# Altium schematic symbol library ind.Schlib: 1 symbol
Pins are listed as number, name and electrical type; pins without a type are passive.

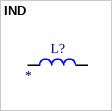
[diagram p0: symbol IND]

## IND
designator L?
Value: *
pins: 1, 2